# Altium integrated library TI Interface Isolator.IntLib: 140 symbols (part 6 of 6)
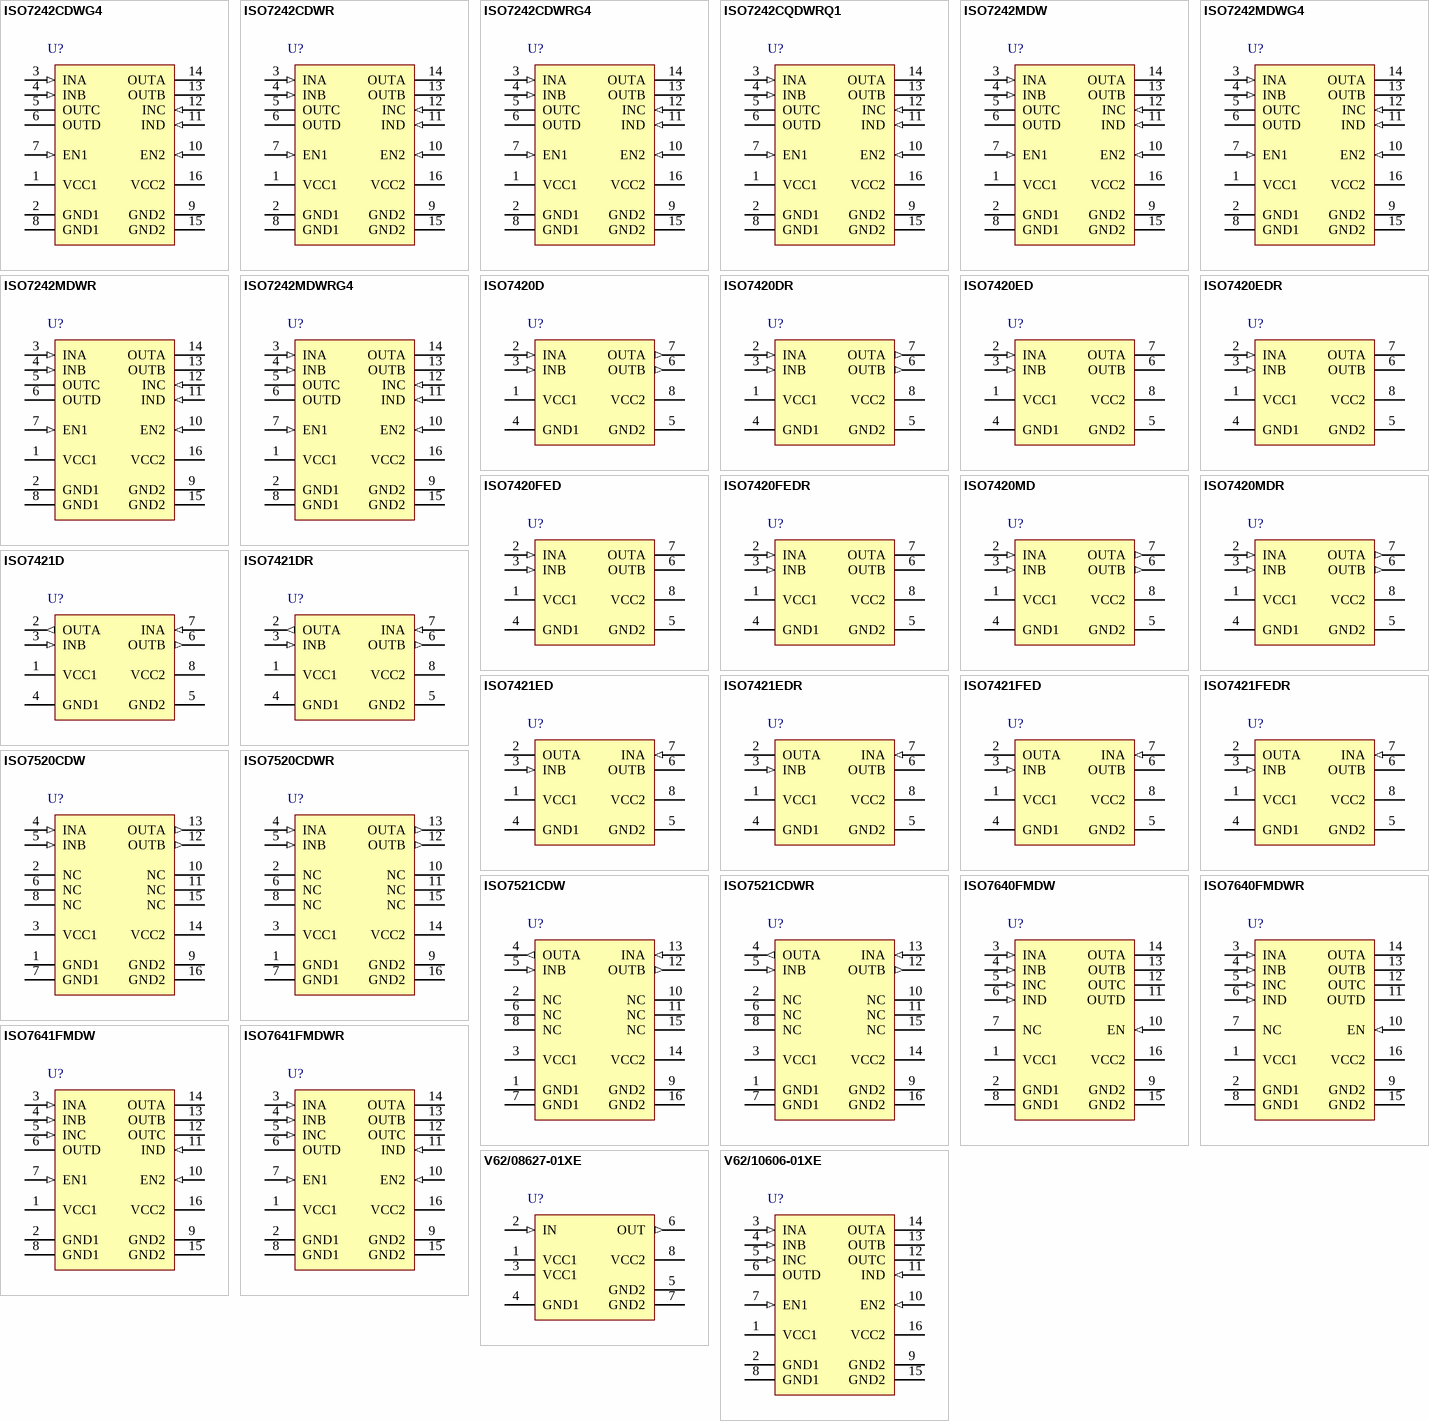
[diagram p8: symbols ISO7242CDWG4 to V62/10606-01XE]

## ISO7641FMDW
designator U?
150 Mbps 6 kVpk Low Power Quad Channels, Digital Isolator, 2.7 V / 3.3 V / 5 V, -40 to +125 degC, 16-pin SOIC (DW), Green (RoHS & no Sb/Br); Manufacturer: Texas Instruments; PartNumber: ISO7641FMDW; Datarate(Mbps): 150; Input Noise Filter: None; Insulation Rating(VRMS): 5000; Prop Delay(Max)(ns): 10.5; Rating: Catalog; Supply Voltage(s)(V): 2.7, 3.3, 5; TTL/CMOS Input Threshold: TTL; DatasheetVersion: SLLSE89C; PackageVersion: 4040000-2/G, 01/2011; PackageReference: DW0016A; PackageDescription: 16-Pin Plastic Small Outline, Body 10.30 x 7.50 mm, Pitch 1.27 mm; Supplier 1: Digi-Key; Supplier Part Number 1: 296-29704-5-ND; Supplier 2: Farnell; Supplier Part Number 2: 2335672; Supplier 3: Newark; Supplier Part Number 3: 70T7541; Supplier 4: Mouser; Supplier Part Number 4: 595-ISO7641FMDW; Eco-Plan: Green (RoHS & no Sb/Br); Fail Safe: Low; SubFamily: Isolator; Thermal Shutdown: No; MountType: SMT; Code_JEDEC: MS-013; ComponentLink1Description: Manufacturer URL; ComponentLink1URL: http://www.ti.com/; ComponentLink2Description: Datasheet; ComponentLink2URL: http://www.ti.com/general/docs/lit/getliterature.tsp?genericPartNumber=ISO7641FM&fileType=pdf; ComponentLink3Description: Package Specification; ComponentLink3URL: http://www.ti.com/litv/pdf/msoi003g; ComponentLink4Description: SamplesURL; ComponentLink4URL: http://www.ti.com/product/iso7641fm#samples
footprint DW0016A_N (SOIC, 16-Leads, Body 10.5x7.6mm, Pitch 1.27mm, IPC Medium Density)
footprint DW0016A_L (SOIC, 16-Leads, Body 10.5x7.6mm, Pitch 1.27mm, IPC High Density)
footprint DW0016A_M (SOIC, 16-Leads, Body 10.5x7.6mm, Pitch 1.27mm, IPC Low Density)
pins: 1 VCC1 (power) "Power supply, VCC1", 2 GND1 (power) "Ground connection for VCC1", 3 INA (in) "Input, channel A", 4 INB (in) "Input, channel B", 5 INC (in) "Input, channel C", 6 OUTD (hiz) "Output, channel D", 7 EN1 (in) "Enables(when input is High or Open)or Disables(when input is Low) OUTD of ISO7641", 8 GND1 (power) "Ground connection for VCC1", 9 GND2 (power) "Ground connection for VCC2", 10 EN2 (in) "Enables(when input is High or Open)or Disables(when input is Low) OUTA,OUTB and OUTC of ISO7641", 11 IND (in) "Input, channel D", 12 OUTC (hiz) "Output, channel C", 13 OUTB (hiz) "Output, channel B", 14 OUTA (hiz) "Output, channel A", 15 GND2 (power) "Ground connection for VCC2", 16 VCC2 (power) "Power supply, VCC2"

## ISO7641FMDWR
designator U?
150 Mbps 6 kVpk Low Power Quad Channels, Digital Isolator, 2.7 V / 3.3 V / 5 V, -40 to +125 degC, 16-pin SOIC (DW), Green (RoHS & no Sb/Br); Manufacturer: Texas Instruments; PartNumber: ISO7641FMDWR; Datarate(Mbps): 150; Input Noise Filter: None; Insulation Rating(VRMS): 5000; Prop Delay(Max)(ns): 10.5; Rating: Catalog; Supply Voltage(s)(V): 2.7, 3.3, 5; TTL/CMOS Input Threshold: TTL; DatasheetVersion: SLLSE89C; PackageVersion: 4040000-2/G, 01/2011; PackageReference: DW0016A; PackageDescription: 16-Pin Plastic Small Outline, Body 10.30 x 7.50 mm, Pitch 1.27 mm; Supplier 1: Digi-Key; Supplier Part Number 1: 296-35966-2-ND; Supplier 2: Digi-Key; Supplier Part Number 2: 296-35966-1-ND; Supplier 3: Digi-Key; Supplier Part Number 3: 296-35966-6-ND; Supplier 4: Newark; Supplier Part Number 4: 70T7542; Supplier 5: Mouser; Supplier Part Number 5: 595-ISO7641FMDWR; Eco-Plan: Green (RoHS & no Sb/Br); Fail Safe: Low; SubFamily: Isolator; Thermal Shutdown: No; MountType: SMT; Code_JEDEC: MS-013; ComponentLink1Description: Manufacturer URL; ComponentLink1URL: http://www.ti.com/; ComponentLink2Description: Datasheet; ComponentLink2URL: http://www.ti.com/general/docs/lit/getliterature.tsp?genericPartNumber=ISO7641FM&fileType=pdf; ComponentLink3Description: Package Specification; ComponentLink3URL: http://www.ti.com/litv/pdf/msoi003g; ComponentLink4Description: SamplesURL; ComponentLink4URL: http://www.ti.com/product/iso7641fm#samples
footprint DW0016A_N (SOIC, 16-Leads, Body 10.5x7.6mm, Pitch 1.27mm, IPC Medium Density)
footprint DW0016A_L (SOIC, 16-Leads, Body 10.5x7.6mm, Pitch 1.27mm, IPC High Density)
footprint DW0016A_M (SOIC, 16-Leads, Body 10.5x7.6mm, Pitch 1.27mm, IPC Low Density)
pins: 1 VCC1 (power) "Power supply, VCC1", 2 GND1 (power) "Ground connection for VCC1", 3 INA (in) "Input, channel A", 4 INB (in) "Input, channel B", 5 INC (in) "Input, channel C", 6 OUTD (hiz) "Output, channel D", 7 EN1 (in) "Enables(when input is High or Open)or Disables(when input is Low) OUTD of ISO7641", 8 GND1 (power) "Ground connection for VCC1", 9 GND2 (power) "Ground connection for VCC2", 10 EN2 (in) "Enables(when input is High or Open)or Disables(when input is Low) OUTA,OUTB and OUTC of ISO7641", 11 IND (in) "Input, channel D", 12 OUTC (hiz) "Output, channel C", 13 OUTB (hiz) "Output, channel B", 14 OUTA (hiz) "Output, channel A", 15 GND2 (power) "Ground connection for VCC2", 16 VCC2 (power) "Power supply, VCC2"

## V62/08627-01XE
designator U?
150 Mbps Enhanced Product, Single Digital Isolator, 3.3 V / 5 V, -55 to +125 degC, 8-pin SOIC (D), Green (RoHS & no Sb/Br); Manufacturer: Texas Instruments; PartNumber: V62/08627-01XE; Datarate(Mbps): 150; Input Noise Filter: None; Insulation Rating(VRMS): 1500; Prop Delay(Max)(ns): 16; Rating: HiRel Enhanced Product; Supply Voltage(s)(V): 3.3, 5; TTL/CMOS Input Threshold: CMOS; DatasheetVersion: SLLS882; PackageVersion: 4040047-3/M, 06/2011; PackageReference: D0008A; PackageDescription: 8-Pin Plastic Small Outline, Body 4.9 x 3.9 mm, Pitch 1.27 mm; Supplier 1: Newark; Supplier Part Number 1: 50R8196; Supplier 2: Mouser; Supplier Part Number 2: 595-V62/08627-01XE; Eco-Plan: Green (RoHS & no Sb/Br); SubFamily: Isolator; Thermal Shutdown: No; MountType: SMT; Code_JEDEC: MS-012; ComponentLink1Description: Manufacturer URL; ComponentLink1URL: http://www.ti.com/; ComponentLink2Description: Datasheet; ComponentLink2URL: http://www.ti.com/general/docs/lit/getliterature.tsp?genericPartNumber=ISO721M-EP&fileType=pdf; ComponentLink3Description: Package Specification; ComponentLink3URL: http://www.ti.com/litv/pdf/msoi002j; ComponentLink4Description: SamplesURL; ComponentLink4URL: http://www.ti.com/product/iso721m-ep#samples
footprint D0008A_N (SOIC, 8-Leads, Body 5x4mm, Pitch 1.27mm, IPC Medium Density)
footprint D0008A_L (SOIC, 8-Leads, Body 5x4mm, Pitch 1.27mm, IPC High Density)
footprint D0008A_M (SOIC, 8-Leads, Body 5x4mm, Pitch 1.27mm, IPC Low Density)
pins: 1 VCC1 (power), 2 IN (in), 3 VCC1 (power), 4 GND1 (power), 5 GND2 (power), 6 OUT (out), 7 GND2 (power), 8 VCC2 (power)

## V62/10606-01XE
designator U?
1 Mbps Enhanced Product Quad Channels, 3 / 1, Digital Isolator, 3.3 V / 5 V, -55 to +125 degC, 16-pin SOIC (DW); Manufacturer: Texas Instruments; PartNumber: V62/10606-01XE; Datarate(Mbps): 1; Input Noise Filter: Yes; Insulation Rating(VRMS): 2500; Prop Delay(Max)(ns): 80; Rating: HiRel Enhanced Product; Supply Voltage(s)(V): 3.3, 5; Thermal Shutdown: No; TTL/CMOS Input Threshold: TTL; DatasheetVersion: SLLSE18; PackageVersion: 4040000-2/G, 01/2011; PackageReference: DW0016A; PackageDescription: 16-Pin Plastic Small Outline, Body 10.30 x 7.50 mm, Pitch 1.27 mm; Supplier 1: Mouser; Supplier Part Number 1: 595-V62/10606-01XE; SubFamily: Isolator; MountType: SMT; Code_JEDEC: MS-013; ComponentLink1Description: Manufacturer URL; ComponentLink1URL: http://www.ti.com/; ComponentLink2Description: Datasheet; ComponentLink2URL: http://www.ti.com/general/docs/lit/getliterature.tsp?genericPartNumber=ISO7241A-EP&fileType=pdf; ComponentLink3Description: Package Specification; ComponentLink3URL: http://www.ti.com/litv/pdf/msoi003g; ComponentLink4Description: SamplesURL; ComponentLink4URL: http://www.ti.com/product/iso7241a-ep#samples
footprint DW0016A_N (SOIC, 16-Leads, Body 10.5x7.6mm, Pitch 1.27mm, IPC Medium Density)
footprint DW0016A_L (SOIC, 16-Leads, Body 10.5x7.6mm, Pitch 1.27mm, IPC High Density)
footprint DW0016A_M (SOIC, 16-Leads, Body 10.5x7.6mm, Pitch 1.27mm, IPC Low Density)
pins: 1 VCC1 (power), 2 GND1 (power), 3 INA (in), 4 INB (in), 5 INC (in), 6 OUTD (hiz), 7 EN1 (in), 8 GND1 (power), 9 GND2 (power), 10 EN2 (in), 11 IND (in), 12 OUTC (hiz), 13 OUTB (hiz), 14 OUTA (hiz), 15 GND2 (power), 16 VCC2 (power)